# Altium footprint library JST_B3B-XH-A-3PIN.PcbLib: 1 footprints
Each footprint in its own frame and in the unit in brackets; x right, y up, seen from the top. Pads: shape width x height; smd on the part's side, far side on the other; paste and mask are expansions set on the pad; w line width, h text height; cw(c..) or ccw(c..) is an arc to the next point about the centre after c.
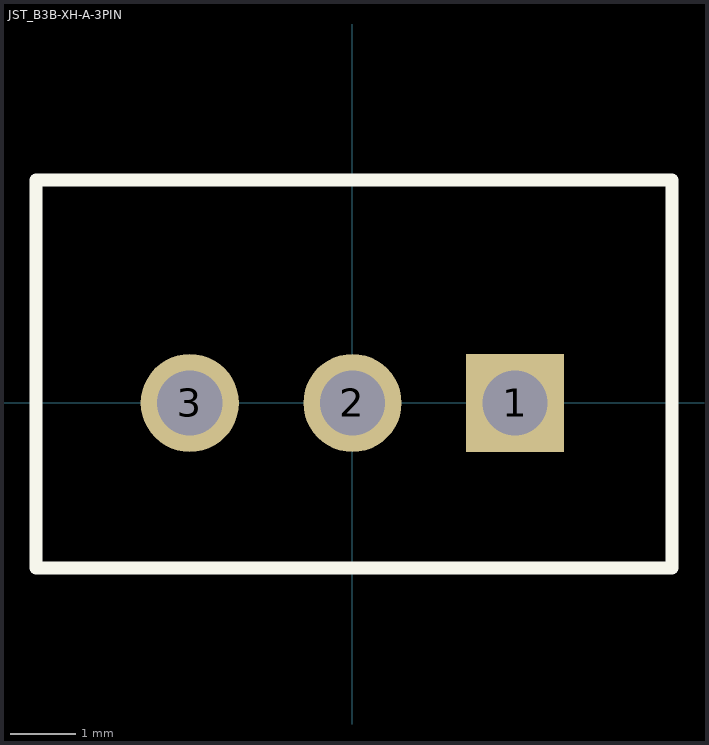
[diagram p0: the footprint, top view; thin cyan lines are the x and y axes]

## JST_B3B-XH-A-3PIN [mm]
pads (3):
  rect 1.508x1.508 hole 1: 1(2.5,0)
  round 1.508 hole 1: 2(0,0) 3(-2.5,0)
Top Overlay:
  lines w0.2: -4.866,-2.54 -4.866,3.429 4.913,3.429 4.913,-2.54 -4.866,-2.54
3D body "JST - XH - Thru - 3Pin - 2.5mm (Genuine).stp": height 7.21, standoff -3, extent -4.837,-2.489 4.837,3.353